# EAGLE library part MCP2221A-I/SL (library MCP2221A-I_SL)
USB 2.0-to-I2C/UART/SMBus Protocol Converter with GPIO (Master Mode) Check availability <https://pricing.snapeda.com/parts/MCP2221A-I/SL/Microchip/view-part?ref=eda>
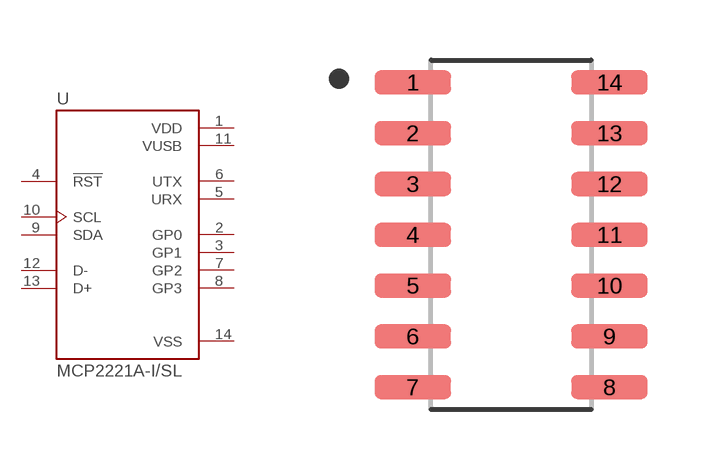
[diagram p0: symbol with the pads of SOIC127P600X175-14N; footprint SOIC127P600X175-14N]

Designator prefix U

## MCP2221A-I/SL (Availability: In Stock; Description: USB Bridge, USB to I²C/UART USB 2.0 I²C, UART Interface 14-SOIC; MF: Microchip; MP: MCP2221A-I/SL; Package: SO-14 Microchip; Price: None; Purchase-URL: https://pricing.snapeda.com/search/part/MCP2221A-I/SL/?ref=eda)  [SOIC127P600X175-14N]
1  VDD  pwr
2  GP0
3  GP1
4  !RST  in
5  URX  in
6  UTX  out
7  GP2
8  GP3
9  SDA
10  SCL
11  VUSB  pwr
12  D-
13  D+
14  VSS  pwr

## Footprint SOIC127P600X175-14N (pad centres in mm)
smd 1.91 x 0.6: 1 -2.46,3.81; 2 -2.46,2.54; 3 -2.46,1.27; 4 -2.46,0; 5 -2.46,-1.27; 6 -2.46,-2.54; 7 -2.46,-3.81; 8 2.46,-3.81; 9 2.46,-2.54; 10 2.46,-1.27; 11 2.46,0; 12 2.46,1.27; 13 2.46,2.54; 14 2.46,3.81